# EAGLE library part LTC3440 (library PowerProducts)
Micropower Synchronous Buck-Boost DC/DC Converter
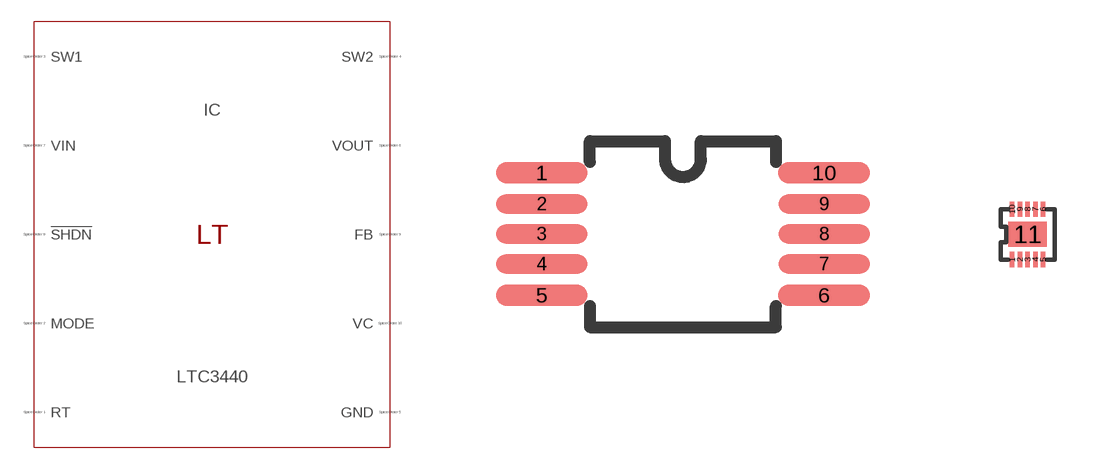
[diagram p185: symbol with the pads of MSOP10(MS); footprints MSOP10(MS), DFN10(DD)]

Designator prefix IC

## LTC3440MS (SPICEMODEL: LTC3440.sub; SPICEPREFIX: X; VALUE2: LTC3440)  [MSOP10(MS)]
1  RT  pas
2  MODE  pas
3  SW1  pas
4  SW2  pas
5  GND  pas
6  VOUT  pas
7  VIN  pas
8  !SHDN  pas
9  FB  pas
10  VC  pas

## LTC3440 (SPICEMODEL: LTC3440.sub; SPICEPREFIX: X; VALUE2: LTC3440)  [DFN10(DD)]
1  RT  pas
2  MODE  pas
3  SW1  pas
4  SW2  pas
5  GND  pas
6  VOUT  pas
7  VIN  pas
8  !SHDN  pas
9  FB  pas
10  VC  pas
11  GND  pas

## Footprint MSOP10(MS) (pad centres in mm)
Package generated from: MSOP10(MS).asc (!PADS-POWERPCB-V5.0-BASIC! DESIGN DATABASE ASCII FILE 1.0) with :import-pads-powerpcb-v5.ulp Version 1.0.1 at 04.10.2012 14:11:19
smd 2.295 x 0.54: 1 -3.529,1.53; 5 -3.529,-1.53; 6 3.529,-1.53; 10 3.529,1.53
smd 2.295 x 0.48: 2 -3.529,0.75; 3 -3.529,0; 4 -3.529,-0.75; 7 3.529,-0.75; 8 3.529,0; 9 3.529,0.75

## Footprint DFN10(DD) (pad centres in mm)
Package generated from: DFN10(DD).asc (!PADS-POWERPCB-V9.3-BASIC! DESIGN DATABASE ASCII FILE 1.0) with :import-pads-powerpcb-v5.ulp Version 1.0.1 at 04.10.2012 14:11:16
smd 0.116 x 0.387: 1 -0.387,-0.629; 2 -0.194,-0.629; 3 0,-0.629; 4 0.194,-0.629; 5 0.387,-0.629; 6 0.387,0.629; 7 0.194,0.629; 8 0,0.629; 9 -0.194,0.629; 10 -0.387,0.629
smd 0.968 x 0.629: 11 0,0